# Altium schematic symbol library servo.SchLib: 10 symbols
Pins are listed as number, name and electrical type; pins without a type are passive.

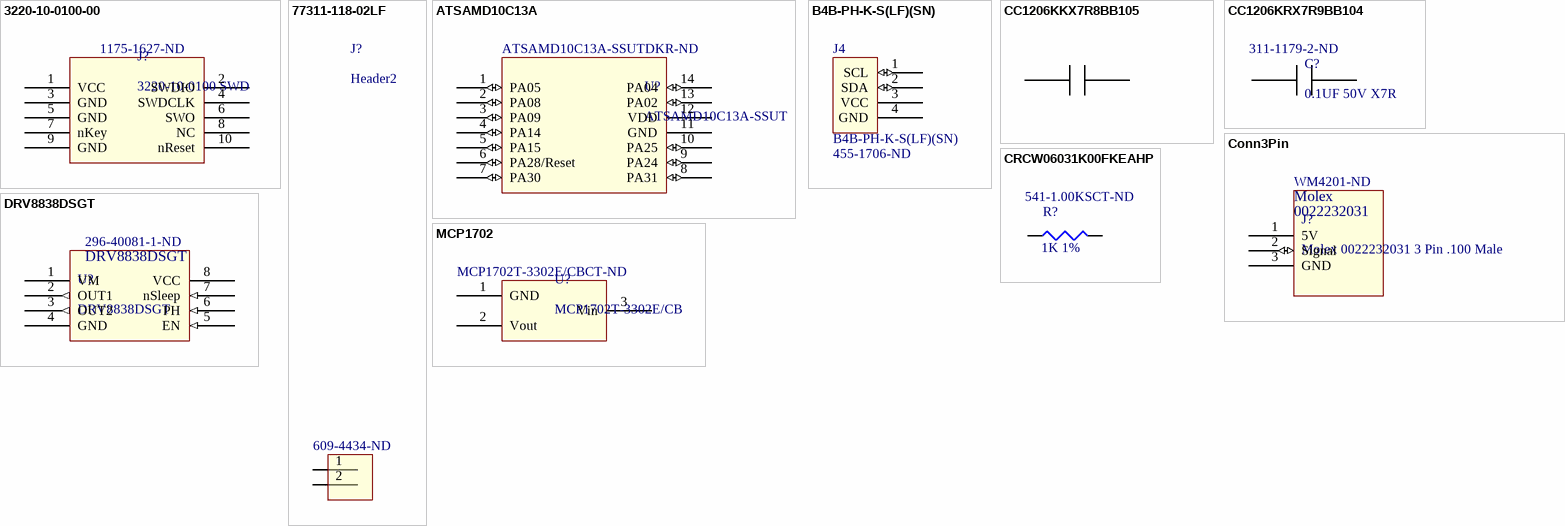
[diagram p0: symbols 3220-10-0100-00 to MCP1702]

## 3220-10-0100-00
designator J?, comment 3220-10-0100 SWD  Supplier Part Number 1: 1175-1627-ND
HiRose 3220-10-0100 BOX HEADER, 0.050 10 POS; Supplier 1: Digi-Key
footprint 3220-10-0100
pins: 1 VCC, 2 SWDIO "GND", 3 GND, 4 SWDCLK "GND", 5 GND, 6 SWO "SWD", 7 nKey, 8 NC, 9 GND, 10 nReset

## 77311-118-02LF
designator J?, comment Header2  Supplier Part Number 1: 609-4434-ND
CONN HEADER 2POS VERT T/H FCI 77311-118-02LF; Supplier 1: Digi-Key
footprint 77311-118-02LF (CONN HEADER 2POS VERT T/H)
pins: 1, 2

## ATSAMD10C13A
designator U?, comment ATSAMD10C13A-SSUT  Supplier Part Number 1: ATSAMD10C13A-SSUTDKR-ND
IC MCU 32BIT 8KB FLASH 14SOIC; Supplier 1: Digi-Key
footprint ATSAMD10C13A (SOIC, 14-Leads, Body 8.65x3.90mm, Pitch 1.27mm, Thermal Pad 4.00x3.00mm, IPC Medium Density)
pins: 1 PA05 (io), 2 PA08 (io), 3 PA09 (io), 4 PA14 (io), 5 PA15 (io), 6 PA28/Reset (io) "PA28/RESET", 7 PA30 (io), 8 PA31 (io), 9 PA24 (io), 10 PA25 (io), 11 GND (power), 12 VDD (power), 13 PA02 (io), 14 PA04 (io), 15 TPad hidden to GND

## B4B-PH-K-S(LF)(SN)
designator J4  Supplier Part Number 1: 455-1706-ND
Supplier 1: Digi-Key
footprint B4B-PH-K-S(LF)(SN) (B4B-PH-K-S(LF)(SN) 4 Pin JST Header)
pins: 1 SCL (io), 2 SDA (io), 3 VCC (power) "Power", 4 GND (power)

## CC1206KKX7R8BB105
designator C?, comment 1UF 25V X7R
CAP CER 1UF 25V X7R 1206 Yageo CC1206KKX7R8BB105; Supplier 1: Digi-Key; Supplier Part Number 1: 311-1356-2-ND
footprint C1206YageoX7R (Chip Capacitor, 2-Leads, Body 3.20x1.60mm, IPC Medium Density)
pins: 1, 2

## CC1206KRX7R9BB104
designator C?, comment 0.1UF 50V X7R  Supplier Part Number 1: 311-1179-2-ND
CAP CER 0.1UF 50V X7R 1206 YAGEO CC1206KRX7R9BB104; Supplier 1: Digi-Key
footprint C1206YageoX7R (Chip Capacitor, 2-Leads, Body 3.20x1.60mm, IPC Medium Density)
pins: 1, 2

## Conn3Pin
designator J?, comment Molex 0022232031 3 Pin .100 Male  Supplier Part Number 1: WM4201-ND
Molex 3 Pin .100 With Retetion; Supplier 1: Digi-Key
footprint 022232031 (3 Pin .100 Pin Header  022232031)
pins: 1 5V (power) "VCC", 2 Signal (io), 3 GND (power) "Signal"
text: Molex; 0022232031

## CRCW06031K00FKEAHP
designator R?, comment 1K 1%  Supplier Part Number 1: 541-1.00KSCT-ND
Resistor 1K 1% 0603 CRCW06031K00FKEAHP; Published: 8-Jun-2000; LatestRevisionDate: 29-May-2009; LatestRevisionNote: IPC-7351 Footprint Added.; PackageReference: J1-0603; Publisher: Altium Limited; PackageDescription: Chip Resistor; Value: 1K; Supplier 1: Digi-Key
footprint J1-0603 (Chip Resistor, Body 1.6x0.8mm, IPC High Density)
footprint 14-1210 (Chip Resistor, Body 3.2x2.5mm, IPC High Density)
footprint 12Z-2010 (Chip Resistor, Body 5.0x2.5mm, IPC High Density)
footprint RESC6332 (Chip Resistor, Body 6.3x3.2mm, IPC High Density)
simulation model RESISTOR (Resistor)
signal-integrity model Res
pins: 1, 2

## DRV8838DSGT
designator U?  Supplier Part Number 1: 296-40081-1-ND
IC BRIDGE DRIVER PAR 8WSON; Supplier 1: Digi-Key
footprint DRV8838DSGT (PSON, 8-Leads, Body 1.95x1.95mm, Pitch 0.50mm, Thermal Pad 1.60x0.67mm, IPC Medium Density)
pins: 1 VM (power) "Motor Power Input", 2 OUT1 (out) "Out1", 3 OUT2 (out) "Out2", 4 GND (power), 5 EN (in) "ENABLE", 6 PH (in) "Phase", 7 nSleep (in), 8 VCC (power), 9 Tpad hidden to GND

## MCP1702
designator U?, comment MCP1702T-3302E/CB  Supplier Part Number 1: MCP1702T-3302E/CBCT-ND
IC REG LDO 3.3V 0.25A SOT23A-3 Microchip MCP1702T-3302E/CB; Supplier 1: Digi-Key
footprint MCP1702-SOT-23A
pins: 1 GND (power), 2 Vout (power), 3 Vin (power)